# Altium footprint library INF-PG-TO-263-3-2_A_N.PcbLib: 1 footprints
Each footprint in its own frame and in the unit in brackets; x right, y up, seen from the top. Pads: shape width x height; smd on the part's side, far side on the other; paste and mask are expansions set on the pad; w line width, h text height; cw(c..) or ccw(c..) is an arc to the next point about the centre after c.
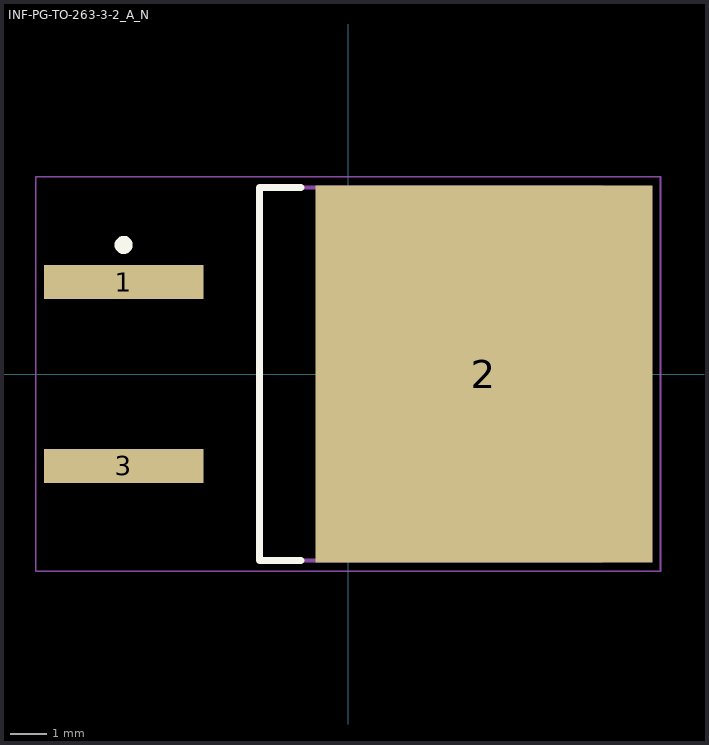
[diagram p0: the footprint, top view; thin cyan lines are the x and y axes]

## INF-PG-TO-263-3-2_A_N [mm] "DPAK, 3-Leads, Body 10.06x8.98mm, Pitch 2.54mm, IPC Medium Density"
height 4.57
pads (3):
  rect 4.4x0.95 smd: 1(-6.2,2.54) 3(-6.2,-2.54)
  rect 9.3x10.4 smd: 2(3.75,0)
Top Overlay:
  circle w0.25: c-6.2,3.565 r0.125
  lines w0.2: -1.3,-5.15 -2.45,-5.15 -2.45,5.15 -1.3,5.15
Mechanical 13:
  lines w0.1: -2.45,-5.15 7,-5.15 7,5.15 -2.45,5.15 -2.45,-5.15
Mechanical 15:
  lines w0.05: -8.625,-5.45 8.625,-5.45 8.625,5.45 -8.625,5.45 -8.625,-5.45
  lines w0.1: -0.5,0 0.5,0 ; 0,-0.5 0,0.5
3D body: height 4.57, standoff 0, extent -2.45,-5.15 7,5.15